# EAGLE library part HC-05-BREAKOUT (library IntelliRoast)
PIN HEADER
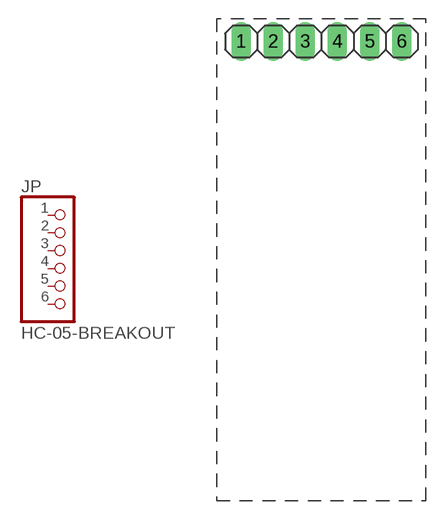
[diagram p1: symbol with the pads of HC-O5_HEADER; footprint HC-O5_HEADER]

Designator prefix JP

## HC-05-BREAKOUT  [HC-O5_HEADER]
1  1  pas
2  2  pas
3  3  pas
4  4  pas
5  5  pas
6  6  pas

## Footprint HC-O5_HEADER (pad centres in mm)
PIN HEADER
drill 1.016 long: 1 -6.35,0; 2 -3.81,0; 3 -1.27,0; 4 1.27,0; 5 3.81,0; 6 6.35,0